# EAGLE library part 74HC138D (library NXP_By_element14_Batch_1)
3-to-8 line decoder/demultiplexer
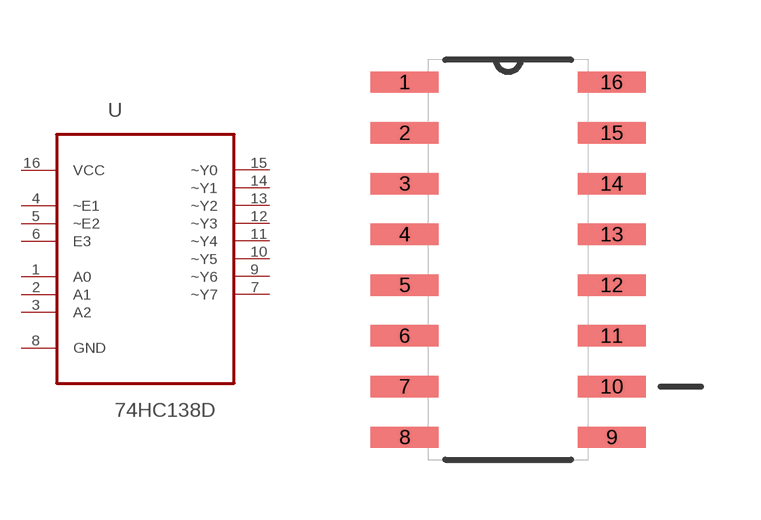
[diagram p32: symbol with the pads of SOIC127P600X175-16N; footprint SOIC127P600X175-16N]

Designator prefix U

## 74HC138D (MPN: 74HC138D; OC_FARNELL: 1201320; OC_NEWARK: -; P1I: o; PACKAGE: SOIC-16; SUPPLIER: NXP)  [SOIC127P600X175-16N]
1  A0  in
2  A1  in
3  A2  in
4  ~E1  in
5  ~E2  in
6  E3  in
7  ~Y7  out
8  GND  pas
9  ~Y6  out
10  ~Y5  out
11  ~Y4  out
12  ~Y3  out
13  ~Y2  out
14  ~Y1  out
15  ~Y0  out
16  VCC  pwr

## Footprint SOIC127P600X175-16N (pad centres in mm)
smd 1.702 x 0.533: 1 -2.591,4.445; 2 -2.591,3.175; 3 -2.591,1.905; 4 -2.591,0.635; 5 -2.591,-0.635; 6 -2.591,-1.905; 7 -2.591,-3.175; 8 -2.591,-4.445; 9 2.591,-4.445; 10 2.591,-3.175; 11 2.591,-1.905; 12 2.591,-0.635; 13 2.591,0.635; 14 2.591,1.905; 15 2.591,3.175; 16 2.591,4.445